# Altium footprint library MODULE_RASPBERRYPI.PcbLib: 3 footprints
Each footprint in its own frame and in the unit in brackets; x right, y up, seen from the top. Pads: shape width x height; smd on the part's side, far side on the other; paste and mask are expansions set on the pad; w line width, h text height; cw(c..) or ccw(c..) is an arc to the next point about the centre after c.
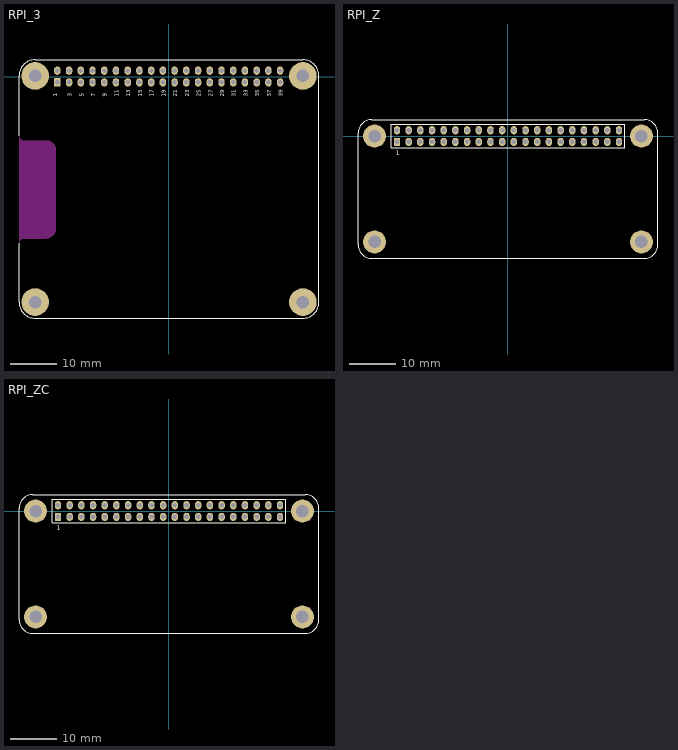
[diagram p0: the footprints below, top view; thin cyan lines are the x and y axes]

## RPI_3 [mm] "Raspberry Pi 3"
pads (44):
  rect 1.4x1.8 / inner rect 1.3x1.3 / far side rect 1.4x1.8 hole 1: 1(-24.13,-1.27)
  oval 1.4x1.8 / inner round 1.3 / far side oval 1.4x1.8 hole 1: 2(-24.13,1.27) 3(-21.59,-1.27) 4(-21.59,1.27) 5(-19.05,-1.27) 6(-19.05,1.27) 7(-16.51,-1.27) 8(-16.51,1.27) 9(-13.97,-1.27) 10(-13.97,1.27) 11(-11.43,-1.27) 12(-11.43,1.27) 13(-8.89,-1.27) 14(-8.89,1.27) 15(-6.35,-1.27) 16(-6.35,1.27) 17(-3.81,-1.27) 18(-3.81,1.27) 19(-1.27,-1.27) 20(-1.27,1.27) 21(1.27,-1.27) 22(1.27,1.27) 23(3.81,-1.27) 24(3.81,1.27) 25(6.35,-1.27) 26(6.35,1.27) 27(8.89,-1.27) 28(8.89,1.27) 29(11.43,-1.27) 30(11.43,1.27) 31(13.97,-1.27) 32(13.97,1.27) 33(16.51,-1.27) 34(16.51,1.27) 35(19.05,-1.27) 36(19.05,1.27) 37(21.59,-1.27) 38(21.59,1.27) 39(24.13,-1.27) 40(24.13,1.27)
  round 6 / inner round 3 / far side round 6 hole 2.7 unplated: ""(-28.937,-48.866) ""(-28.937,0.134) ""(29.063,-48.866) ""(29.063,0.134)
Top Overlay:
  lines w0.2: -32.437,-48.866 ccw(c-28.937,-48.866) -28.937,-52.366 29.063,-52.366 ccw(c29.059,-48.87) 32.555,-48.866 32.555,0.134 ccw(c29.059,0.138) 29.063,3.634 -28.937,3.634 ccw(c-28.937,0.134) -32.437,0.134 -32.437,-12.866 ; -32.437,-48.852 -32.437,-36.116
  text "1" at -24.172,-4.346 h0.89
  text "3" at -20.997,-4.346 h0.89
  text "5" at -18.457,-4.346 h0.89
  text "7" at -15.917,-4.346 h0.89
  text "9" at -13.377,-4.346 h0.89
  text "11" at -10.837,-4.346 h0.89
  text "13" at -8.297,-4.346 h0.89
  text "15" at -5.757,-4.346 h0.89
  text "17" at -3.217,-4.346 h0.89
  text "19" at -0.677,-4.346 h0.89
  text "21" at 1.863,-4.346 h0.89
  text "23" at 4.403,-4.346 h0.89
  text "25" at 6.943,-4.346 h0.89
  text "27" at 9.483,-4.346 h0.89
  text "29" at 12.023,-4.346 h0.89
  text "31" at 14.563,-4.346 h0.89
  text "33" at 17.103,-4.346 h0.89
  text "35" at 19.643,-4.346 h0.89
  text "37" at 22.183,-4.346 h0.89
  text "39" at 24.723,-4.346 h0.89
Bottom Overlay:
  circle w0.5: c-24.687,-3.116 r0.25
  lines w0.2: -25.4,-2.54 -25.4,2.54 25.527,2.54 25.527,-2.54 -25.4,-2.54
Keep-Out Layer:
  board cut-out: -32.437,-36.116 -32.437,-12.866 -32.432,-12.964 -32.394,-13.156 -32.319,-13.337 -32.21,-13.5 -32.071,-13.639 -31.908,-13.748 -31.727,-13.823 -31.535,-13.861 -31.437,-13.866 -26.437,-13.866 -26.24,-13.866 -25.854,-13.943 -25.49,-14.094 -25.162,-14.312 -24.883,-14.591 -24.665,-14.919 -24.514,-15.283 -24.437,-15.669 -24.437,-15.866 -24.437,-32.866 -24.437,-33.088 -24.523,-33.522 -24.693,-33.932 -24.939,-34.3 -25.253,-34.614 -25.621,-34.86 -26.031,-35.03 -26.465,-35.116 -26.687,-35.116 -31.437,-35.116 -31.535,-35.121 -31.727,-35.159 -31.908,-35.234 -32.071,-35.343 -32.21,-35.482 -32.319,-35.645 -32.394,-35.826 -32.432,-36.018
3D body "female_header_a-bl254-dg-z32d.stp": height 8.5, standoff -3.2, extent -25.525,-2.5 15.365,2.5
3D body "female_header_a-bl254-dg-z32d.stp": height 8.5, standoff -3.2, extent -15.365,-2.5 25.525,2.5
3D body "User Library-Raspberry Pi 3.X_T": height 3.99, standoff -15.35, extent -32.424,-53.672 54.948,3.639

## RPI_Z [mm] "Raspberry Pi Zero 65X30mm"
pads (44):
  rect 1.4x1.8 / inner rect 1.3x1.3 / far side rect 1.4x1.8 hole 1: 1(-24.13,-1.27)
  oval 1.4x1.8 / inner round 1.3 / far side oval 1.4x1.8 hole 1: 2(-24.13,1.27) 3(-21.59,-1.27) 4(-21.59,1.27) 5(-19.05,-1.27) 6(-19.05,1.27) 7(-16.51,-1.27) 8(-16.51,1.27) 9(-13.97,-1.27) 10(-13.97,1.27) 11(-11.43,-1.27) 12(-11.43,1.27) 13(-8.89,-1.27) 14(-8.89,1.27) 15(-6.35,-1.27) 16(-6.35,1.27) 17(-3.81,-1.27) 18(-3.81,1.27) 19(-1.27,-1.27) 20(-1.27,1.27) 21(1.27,-1.27) 22(1.27,1.27) 23(3.81,-1.27) 24(3.81,1.27) 25(6.35,-1.27) 26(6.35,1.27) 27(8.89,-1.27) 28(8.89,1.27) 29(11.43,-1.27) 30(11.43,1.27) 31(13.97,-1.27) 32(13.97,1.27) 33(16.51,-1.27) 34(16.51,1.27) 35(19.05,-1.27) 36(19.05,1.27) 37(21.59,-1.27) 38(21.59,1.27) 39(24.13,-1.27) 40(24.13,1.27)
  round 5 / inner round 3 / far side round 5 hole 2.7 mask+0.1: ""(-29,-23) ""(-29,0) ""(29,-23) ""(29,0)
Top Overlay:
  lines w0.2: -32.6,-23.6 ccw(c-29.6,-23.6) -29.6,-26.6 29.6,-26.6 ccw(c29.6,-23.6) 32.6,-23.6 32.6,0.6 ccw(c29.6,0.6) 29.6,3.6 -29.6,3.6 ccw(c-29.6,0.6) -32.6,0.6 -32.6,-23.6 ; -25.4,-2.54 25.4,-2.54 25.4,2.54 -25.4,2.54 -25.4,-2.54
  text "1" at -24.447,-4.127 h1
3D body "PBD-2.stp": height 8.5, standoff -3.15, extent -20.32,-2.54 -17.78,2.54
3D body "PBD-2.stp": height 8.5, standoff -3.15, extent -25.4,-2.54 -22.86,2.54
3D body "PBD-2.stp": height 8.5, standoff -3.15, extent -22.86,-2.54 -20.32,2.54
3D body "PBD-2.stp": height 8.5, standoff -3.15, extent -12.7,-2.54 -10.16,2.54
3D body "PBD-2.stp": height 8.5, standoff -3.15, extent -17.78,-2.54 -15.24,2.54
3D body "PBD-2.stp": height 8.5, standoff -3.15, extent -15.24,-2.54 -12.7,2.54
3D body "PBD-2.stp": height 8.5, standoff -3.15, extent -5.08,-2.54 -2.54,2.54
3D body "PBD-2.stp": height 8.5, standoff -3.15, extent -10.16,-2.54 -7.62,2.54
3D body "PBD-2.stp": height 8.5, standoff -3.15, extent -7.62,-2.54 -5.08,2.54
3D body "PBD-2.stp": height 8.5, standoff -3.15, extent 2.54,-2.54 5.08,2.54
3D body "PBD-2.stp": height 8.5, standoff -3.15, extent -2.54,-2.54 0,2.54
3D body "PBD-2.stp": height 8.5, standoff -3.15, extent 0,-2.54 2.54,2.54
3D body "PBD-2.stp": height 8.5, standoff -3.15, extent 10.16,-2.54 12.7,2.54
3D body "PBD-2.stp": height 8.5, standoff -3.15, extent 5.08,-2.54 7.62,2.54
3D body "PBD-2.stp": height 8.5, standoff -3.15, extent 7.62,-2.54 10.16,2.54
3D body "PBD-2.stp": height 8.5, standoff -3.15, extent 17.78,-2.54 20.32,2.54
3D body "PBD-2.stp": height 8.5, standoff -3.15, extent 12.7,-2.54 15.24,2.54
3D body "PBD-2.stp": height 8.5, standoff -3.15, extent 15.24,-2.54 17.78,2.54
3D body "PBD-2.stp": height 8.5, standoff -3.15, extent 20.32,-2.54 22.86,2.54
3D body "PBD-2.stp": height 8.5, standoff -3.15, extent 22.86,-2.54 25.4,2.54
3D body "RaspberryPiZero.STEP": height 15.55, standoff 11.1, extent -32.5,-27.7 32.5,3.53
3D body "PLD-40.step": height -3.1, standoff -14.5, extent -25.4,-2.5 25.4,2.5

## RPI_ZC [mm] "Raspberry Pi Zero 65X30mm with Cam connector"
pads (44):
  rect 1.4x1.8 / inner rect 1.3x1.3 / far side rect 1.4x1.8 hole 1: 1(-24.13,-1.27)
  oval 1.4x1.8 / inner round 1.3 / far side oval 1.4x1.8 hole 1: 2(-24.13,1.27) 3(-21.59,-1.27) 4(-21.59,1.27) 5(-19.05,-1.27) 6(-19.05,1.27) 7(-16.51,-1.27) 8(-16.51,1.27) 9(-13.97,-1.27) 10(-13.97,1.27) 11(-11.43,-1.27) 12(-11.43,1.27) 13(-8.89,-1.27) 14(-8.89,1.27) 15(-6.35,-1.27) 16(-6.35,1.27) 17(-3.81,-1.27) 18(-3.81,1.27) 19(-1.27,-1.27) 20(-1.27,1.27) 21(1.27,-1.27) 22(1.27,1.27) 23(3.81,-1.27) 24(3.81,1.27) 25(6.35,-1.27) 26(6.35,1.27) 27(8.89,-1.27) 28(8.89,1.27) 29(11.43,-1.27) 30(11.43,1.27) 31(13.97,-1.27) 32(13.97,1.27) 33(16.51,-1.27) 34(16.51,1.27) 35(19.05,-1.27) 36(19.05,1.27) 37(21.59,-1.27) 38(21.59,1.27) 39(24.13,-1.27) 40(24.13,1.27)
  round 5 / inner round 3 / far side round 5 hole 2.7 mask+0.1: ""(-29,-23) ""(-29,0) ""(29,-23) ""(29,0)
Top Overlay:
  lines w0.2: -32.6,-23.6 ccw(c-29.6,-23.6) -29.6,-26.6 29.6,-26.6 ccw(c29.6,-23.6) 32.6,-23.6 32.6,0.6 ccw(c29.6,0.6) 29.6,3.6 -29.6,3.6 ccw(c-29.6,0.6) -32.6,0.6 -32.6,-23.6 ; -25.4,-2.54 25.4,-2.54 25.4,2.54 -25.4,2.54 -25.4,-2.54
  text "1" at -24.447,-4.127 h1
3D body "PBD-2.stp": height 8.5, standoff -3.15, extent -20.32,-2.54 -17.78,2.54
3D body "PBD-2.stp": height 8.5, standoff -3.15, extent -25.4,-2.54 -22.86,2.54
3D body "PBD-2.stp": height 8.5, standoff -3.15, extent -22.86,-2.54 -20.32,2.54
3D body "PBD-2.stp": height 8.5, standoff -3.15, extent -12.7,-2.54 -10.16,2.54
3D body "PBD-2.stp": height 8.5, standoff -3.15, extent -17.78,-2.54 -15.24,2.54
3D body "PBD-2.stp": height 8.5, standoff -3.15, extent -15.24,-2.54 -12.7,2.54
3D body "PBD-2.stp": height 8.5, standoff -3.15, extent -5.08,-2.54 -2.54,2.54
3D body "PBD-2.stp": height 8.5, standoff -3.15, extent -10.16,-2.54 -7.62,2.54
3D body "PBD-2.stp": height 8.5, standoff -3.15, extent -7.62,-2.54 -5.08,2.54
3D body "PBD-2.stp": height 8.5, standoff -3.15, extent 2.54,-2.54 5.08,2.54
3D body "PBD-2.stp": height 8.5, standoff -3.15, extent -2.54,-2.54 0,2.54
3D body "PBD-2.stp": height 8.5, standoff -3.15, extent 0,-2.54 2.54,2.54
3D body "PBD-2.stp": height 8.5, standoff -3.15, extent 10.16,-2.54 12.7,2.54
3D body "PBD-2.stp": height 8.5, standoff -3.15, extent 5.08,-2.54 7.62,2.54
3D body "PBD-2.stp": height 8.5, standoff -3.15, extent 7.62,-2.54 10.16,2.54
3D body "PBD-2.stp": height 8.5, standoff -3.15, extent 17.78,-2.54 20.32,2.54
3D body "PBD-2.stp": height 8.5, standoff -3.15, extent 12.7,-2.54 15.24,2.54
3D body "PBD-2.stp": height 8.5, standoff -3.15, extent 15.24,-2.54 17.78,2.54
3D body "PBD-2.stp": height 8.5, standoff -3.15, extent 20.32,-2.54 22.86,2.54
3D body "PBD-2.stp": height 8.5, standoff -3.15, extent 22.86,-2.54 25.4,2.54
3D body "RaspberryPiZeroW.STEP": height 16.3, standoff 11.5, extent -32.45,-27.7 33.45,3.55
3D body "PLD-40.step": height -3.1, standoff -14.5, extent -25.4,-2.5 25.4,2.5